# Altium schematic symbol library Capacitors.SchLib: 4 symbols
Pins are listed as number, name and electrical type; pins without a type are passive.

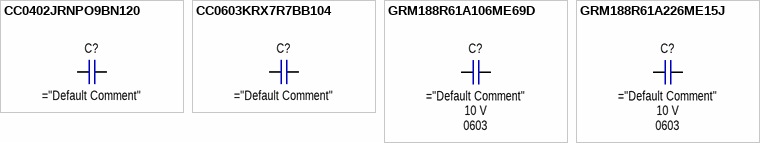
[diagram p0: symbols CC0402JRNPO9BN120 to GRM188R61A226ME15J]

## CC0402JRNPO9BN120
designator C?
CAP CER 12PF 50V C0G/NPO 0402; Manufacturer: YAGEO; Part Number: CC0402JRNPO9BN120; Type: capacitor; Power Dissipation: * W; Rated Current: * A; Tolerance: 5 %; Other: 12 pF ±5% 50V Ceramic Capacitor C0G, NP0 0402 (1005 Metric); Operating Temperature: -55 °C to +125 °C; HelpURL: https://www.digikey.com/en/products/detail/yageo/CC0402JRNPO9BN120/302750; Default Comment: 12 pF; Rated Power: * W; Value: 12 pF; Summary: ="Type"+" "+"Part Number"+" "+"Manufacturer"+" "+"Value"+" "+"Tolerance"+" "+"Operating Temperature"+" "+"Case"+" "+"Power Dissipation"+" "+"Rated Current"+" "+"Rated Power"+" "+"Rated Voltage"+" "+"Other"; Assembly: *; Case: 0402; Rated Voltage: 50 V
footprint CAP0402MD (Chip Capacitor, 2-Leads, Body 1,00x0,50mm, IPC Medium Density)
pins: 1, 2

## CC0603KRX7R7BB104
designator C?
CAP CER 0.1UF 16V X7R 0603; Manufacturer: YAGEO; Part Number: CC0603KRX7R7BB104; Type: capacitor; Power Dissipation: * W; Rated Current: * A; Tolerance: 10 %; Other: 0.1 µF ±10% 16V Ceramic Capacitor X7R 0603 (1608 Metric); Operating Temperature: -55 °C to +125 °C; HelpURL: https://www.digikey.com/en/products/detail/yageo/CC0603KRX7R7BB104/302822; Default Comment: 0.1 uF; Rated Power: * W; Value: 0.1 uF; Summary: ="Type"+" "+"Part Number"+" "+"Manufacturer"+" "+"Value"+" "+"Tolerance"+" "+"Operating Temperature"+" "+"Case"+" "+"Power Dissipation"+" "+"Rated Current"+" "+"Rated Power"+" "+"Rated Voltage"+" "+"Other"; Assembly: *; Case: 0603; Rated Voltage: 16 V
footprint CAP0603HD (IPC 0603 High density)
pins: 1, 2

## GRM188R61A106ME69D
designator C?  Rated Voltage: 10 V  Case: 0603
CAP CER 10UF 10V X5R 0603; Manufacturer: Murata Electronics; Part Number: GRM188R61A106ME69D; Type: capacitor; Power Dissipation: * W; Rated Current: * A; Tolerance: 20 %; Other: 10 µF ±20% 10V Ceramic Capacitor X5R 0603 (1608 Metric); Operating Temperature: -55 °C to +85 °C; HelpURL: https://www.digikey.com/en/products/detail/murata-electronics/GRM188R61A106ME69D/5027560; Default Comment: 10 uF; Rated Power: * W; Value: 10 uF; Summary: ="Type"+" "+"Part Number"+" "+"Manufacturer"+" "+"Value"+" "+"Tolerance"+" "+"Operating Temperature"+" "+"Case"+" "+"Power Dissipation"+" "+"Rated Current"+" "+"Rated Power"+" "+"Rated Voltage"+" "+"Other"; Assembly: *
footprint CAP0603HD (IPC 0603 High density)
pins: 1, 2

## GRM188R61A226ME15J
designator C?  Case: 0603  Rated Voltage: 10 V
CAP CER 22UF 10V X5R 0603; Manufacturer: Murata Electronics; Part Number: GRM188R61A226ME15J; Type: capacitor; Power Dissipation: * W; Rated Current: * A; Tolerance: 20 %; Other: 22 µF ±20% 10V Ceramic Capacitor X5R 0603 (1608 Metric); Operating Temperature: -55 °C to +85 °C; HelpURL: https://www.digikey.com/en/products/detail/murata-electronics/GRM188R61A226ME15J/6605932; Default Comment: 22 uF; Rated Power: * W; Value: 22 uF; Summary: ="Type"+" "+"Part Number"+" "+"Manufacturer"+" "+"Value"+" "+"Tolerance"+" "+"Operating Temperature"+" "+"Case"+" "+"Power Dissipation"+" "+"Rated Current"+" "+"Rated Power"+" "+"Rated Voltage"+" "+"Other"; Assembly: *
footprint CAP0603HD (IPC 0603 High density)
pins: 1, 2